# EAGLE library part USB_MICRO (library StasDuinoLib2)
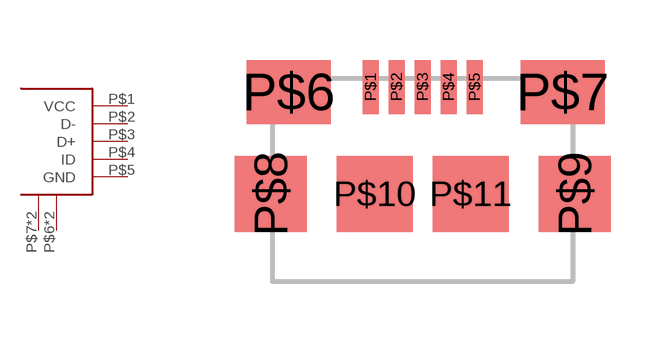
[diagram p4: symbol with the pads of USB_MICRO; footprint USB_MICRO]

Designator prefix -

## USB_MICRO  [USB_MICRO]
P$1  VCC
P$2  D-
P$3  D+
P$4  ID  nc
P$5  GND
P$6  SHIELD1
P$7  SHIELD2
P$8  SHIELD1
P$9  SHIELD2

## Footprint USB_MICRO (pad centres in mm)
smd 0.4 x 1.35: P$1 -1.3,-0.675; P$2 -0.65,-0.675; P$3 0,-0.675; P$4 0.65,-0.675; P$5 1.3,-0.675
smd 2.1 x 1.6: P$6 -3.35,-0.8; P$7 3.5,-0.8
smd 1.8 x 1.9: P$8 -3.8,-3.35; P$9 3.8,-3.35
smd 1.9 x 1.9: P$10 -1.2,-3.35; P$11 1.2,-3.35